# EAGLE library part ICSP_HEADER (library NikodemBartnik)
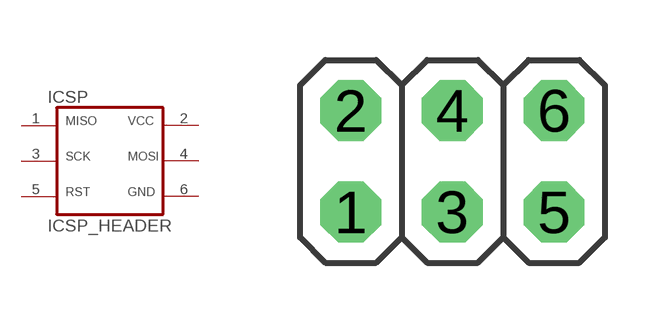
[diagram p2: symbol with the pads of ICSP_HEADER; footprint ICSP_HEADER]

Designator prefix -

## ICSP_HEADER  [ICSP_HEADER]
1  MISO  pas
2  VCC  pas
3  SCK  pas
4  MOSI  pas
5  RST  pas
6  GND  pas

## Footprint ICSP_HEADER (pad centres in mm)
ICSP HEADER MISO VCC SCK MOSI RST GND
drill 1.016 octagon: 1 -2.54,-1.27; 2 -2.54,1.27; 3 0,-1.27; 4 0,1.27; 5 2.54,-1.27; 6 2.54,1.27